# Altium footprint library TO.PcbLib: 3 footprints
Each footprint in its own frame and in the unit in brackets; x right, y up, seen from the top. Pads: shape width x height; smd on the part's side, far side on the other; paste and mask are expansions set on the pad; w line width, h text height; cw(c..) or ccw(c..) is an arc to the next point about the centre after c.
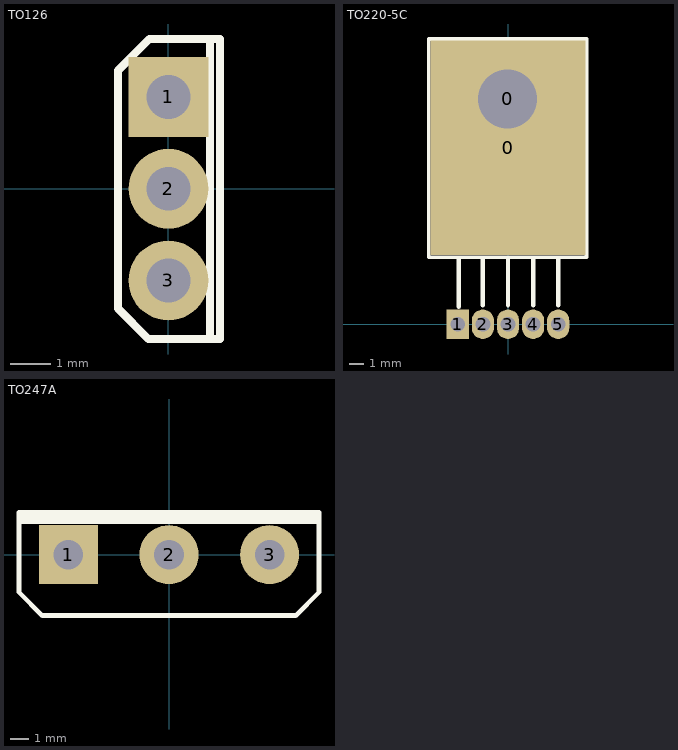
[diagram p0: the footprints below, top view; thin cyan lines are the x and y axes]

## TO126 [mm] "126晶体管"
pads (3):
  rect 2x2 hole 1.1: 1(0,2.3)
  round 2 hole 1.1: 2(0,0) 3(0,-2.3)
Top Overlay:
  lines w0.2: 1.041,-3.734 1.041,3.734 ; -1.268,-3.005 -1.268,2.964 -0.48,3.752 1.295,3.752 1.295,-3.767 -0.506,-3.767 -1.268,-3.005
3D body "23.STEP": height 15, standoff -4, extent -1.27,-4 1.53,4

## TO220-5C [mm] "220，5脚晶体管"
pads (7):
  round 4.2 hole 4: 0(-0.022,15.247)
  rect 10.5x14.5 smd: 0(0,11.938)
  rect 1.5x2 hole 1: 1(-3.4,0)
  oval 1.5x2 hole 1: 2(-1.7,0) 3(0,0) 4(1.7,0) 5(3.4,0)
Top Overlay:
  lines w0.254: -5.356,4.528 -3.832,4.528 5.312,4.528 5.312,19.304 -5.356,19.304 -5.356,4.528
  lines w0.3: -3.324,1.194 -3.324,4.369 ; -1.7,1.27 -1.7,4.445 ; 0,1.27 0,4.445 ; 1.7,1.27 1.7,4.445 ; 3.4,1.27 3.4,4.445
3D body "TO220-5.STEP": height 4.5, standoff -3, extent -5.02,-0.254 5.08,18.071

## TO247A [mm] "247，3脚晶体管"
pads (3):
  rect 3.2x3.2 hole 1.6: 1(-5.45,0)
  round 3.2 hole 1.6: 2(0,0) 3(5.45,0)
Top Overlay:
  lines w0.254: -8.128,1.778 -8.128,2.032 ; -8.128,1.778 -8.128,-2.032 -6.858,-3.302 6.858,-3.302 8.128,-2.032 8.128,1.778 ; -8.128,1.778 8.128,1.778 ; -8.128,2.032 -8.128,2.286 8.128,2.286 8.128,1.778 ; -8.128,2.032 8.128,2.032 8.128,1.778
3D body "TO247.STEP": height 24, standoff -6, extent -7.75,-2.921 7.75,2.079